# Altium footprint library ANT.PCBLIB: 24 footprints (part 2 of 2)
Each footprint in its own frame and in the unit in brackets; x right, y up, seen from the top. Pads: shape width x height; smd on the part's side, far side on the other; paste and mask are expansions set on the pad; w line width, h text height; cw(c..) or ccw(c..) is an arc to the next point about the centre after c.
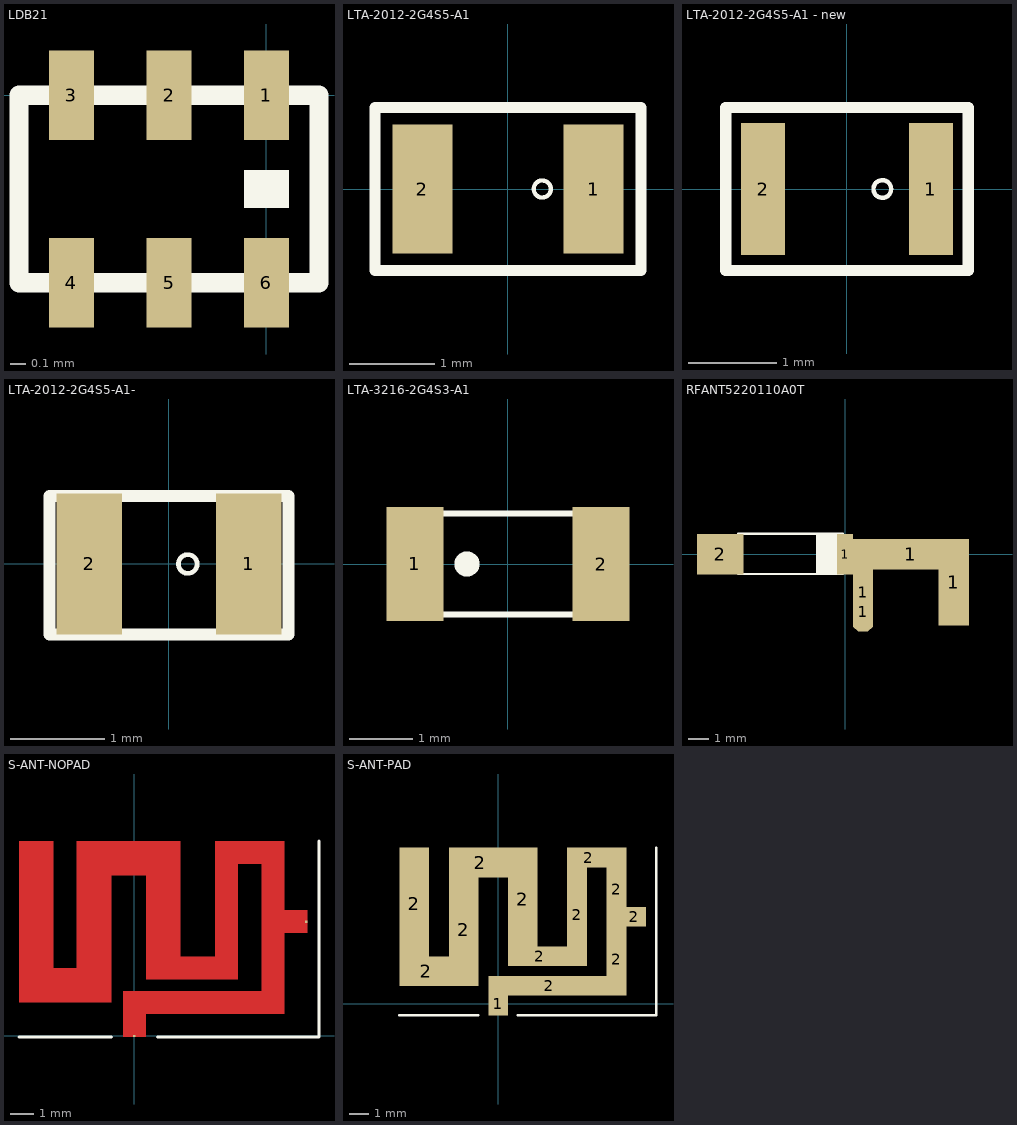
[diagram p1: the footprints below, top view; thin cyan lines are the x and y axes]

## LDB21 [mm]
pads (6):
  rect 0.3x0.6 smd: 1(0,0) 2(-0.65,0) 3(-1.3,0) 4(-1.3,-1.25) 5(-0.65,-1.25) 6(0,-1.25)
TopOverlay:
  rectangle: -0.15,-0.75 0.15,-0.5
  lines w0.127: -1.65,-1.25 0.35,-1.25 0.35,0 -1.65,0 -1.65,-1.25

## LTA-2012-2G4S5-A1 [mm] "LTA-2012-2G4S5-A1"
pads (2):
  rect 0.7x1.5 smd: 1(1,0) 2(-1,0)
TopOverlay:
  circle w0.05: c0.4,0 r0.1
  lines w0.127: -1.55,-0.95 -1.55,0.95 1.55,0.95 1.55,-0.95 -1.55,-0.95

## LTA-2012-2G4S5-A1 - new [mm] "LTA-2012-2G4S5-A1 - new"
pads (2):
  rect 0.5x1.5 smd: 1(0.95,0) 2(-0.95,0)
TopOverlay:
  circle w0.05: c0.4,0 r0.1
  lines w0.127: -1.375,-0.925 -1.375,0.925 1.375,0.925 1.375,-0.925 -1.375,-0.925

## LTA-2012-2G4S5-A1- [mm] "LTA-2012-2G4S5-A1-"
pads (2):
  rect 0.7x1.5 smd: 1(0.85,0) 2(-0.85,0)
TopOverlay:
  circle w0.05: c0.2,0 r0.1
  lines w0.127: -1.275,-0.75 1.275,-0.75 1.275,0.725 -1.275,0.725 -1.275,-0.75

## LTA-3216-2G4S3-A1 [mm] "LTA-3216-2G4S3-A1"
pads (2):
  rect 0.9x1.8 smd: 1(-1.475,0) 2(1.475,0)
TopOverlay:
  circle w0.2: c-0.65,0 r0.1
  lines w0.1: -1.6,-0.8 1.6,-0.8 1.6,0.8 -1.6,0.8 -1.6,-0.8

## RFANT5220110A0T [mm]
pads (6):
  rect 0.8x2 smd: 1(0,0)
  oct 1x2 smd: 1(0.889,-2.845)
  rect 1x2.3 smd: 1(0.889,-1.88)
  rect 5.75x1.5 smd: 1(3.251,0)
  rect 1.524x4.3 smd: 1(5.385,-1.397)
  rect 2.3x2 smd: 2(-6.198,0)
TopOverlay:
  region: -1.448,1.009 -1.448,-0.991 -0.109,-0.991 -0.109,1.009
  lines w0.1: -5.309,-0.984 -0.109,-0.984 -0.109,1.016 -5.309,1.016 -5.309,-0.984

## S-ANT-NOPAD [mm]
pads (2):
  rect 0.1x0.1 smd: 1(0,0) 2(7.45,4.95)
TopLayer:
  rectangle: -0.5,-0.05 0.5,1.925
  rectangle: -0.5,0.95 6.5,1.95
  rectangle: 5.525,4.45 7.5,5.45
  rectangle: 5.5,0.95 6.5,8.45
  rectangle: 3.5,7.45 6.5,8.45
  rectangle: 3.5,2.45 4.5,8.45
  rectangle: 0.5,2.45 4.5,3.45
  rectangle: 0.5,2.45 2,8.45
  rectangle: -2.5,6.95 2,8.45
  rectangle: -2.5,1.45 -1,8.45
  rectangle: -5,1.45 -1,2.95
  rectangle: -5,1.45 -3.5,8.45
TopOverlay:
  lines w0.127: -5,-0.05 -1,-0.05 ; 1,-0.05 8,-0.05 8,8.45

## S-ANT-PAD [mm]
pads (13):
  rect 1x1.2 smd: 1(0,0)
  rect 1.5x5.7 smd: 2(-4.25,5.05) 2(-1.75,3.75)
  rect 2.7x1.5 smd: 2(-3.65,1.65)
  rect 3.2x1.5 smd: 2(-0.9,7.15)
  rect 1.5x5.2 smd: 2(1.25,5.3)
  rect 3.2x1 smd: 2(2.1,2.4)
  rect 6.2x1 smd: 2(2.6,0.9)
  rect 1x5.2 smd: 2(4,4.5)
  rect 2.2x1 smd: 2(4.6,7.4)
  rect 1x3.7 smd: 2(6,2.25)
  rect 1x4.2 smd: 2(6,5.8)
  rect 1.2x1 smd: 2(6.9,4.4)
TopOverlay:
  lines w0.127: -5,-0.6 -1,-0.6 ; 1,-0.6 8,-0.6 8,7.9